# Altium schematic symbol library EC28A1550401.SchLib: 1 symbol
Pins are listed as number, name and electrical type; pins without a type are passive.

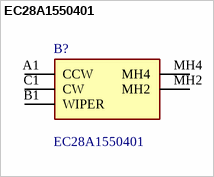
[diagram p0: symbol EC28A1550401]

## EC28A1550401
designator B?
Mechanical Encoder Rotary Incremental Hollow 0.012N.m Straight Quadrature Digital Square Wave 15PPR Through Hole PC Pin; Manufacturer_Name: ALPS Electric; Geometry.Height: 15mm; Manufacturer_Part_Number: EC28A1550401; Mouser Part Number: 688-EC28A1550401; Mouser Price/Stock: https://www.mouser.co.uk/ProductDetail/Alps-Alpine/EC28A1550401?qs=6EGMNY9ZYDQ4uQAQL1bBwA%3D%3D; Arrow Part Number: *; Arrow Price/Stock: *; Datasheet Link: https://tech.alpsalpine.com/prod/e/html/encoder/ring/ec28a/ec28a1550401.html
footprint EC28A1550401
pins: A1 CCW, B1 WIPER, C1 CW, MH2, MH4